# Altium footprint library ESender_PCB_Lib.PcbLib: 52 footprints (part 4 of 4)
Each footprint in its own frame and in the unit in brackets; x right, y up, seen from the top. Pads: shape width x height; smd on the part's side, far side on the other; paste and mask are expansions set on the pad; w line width, h text height; cw(c..) or ccw(c..) is an arc to the next point about the centre after c.
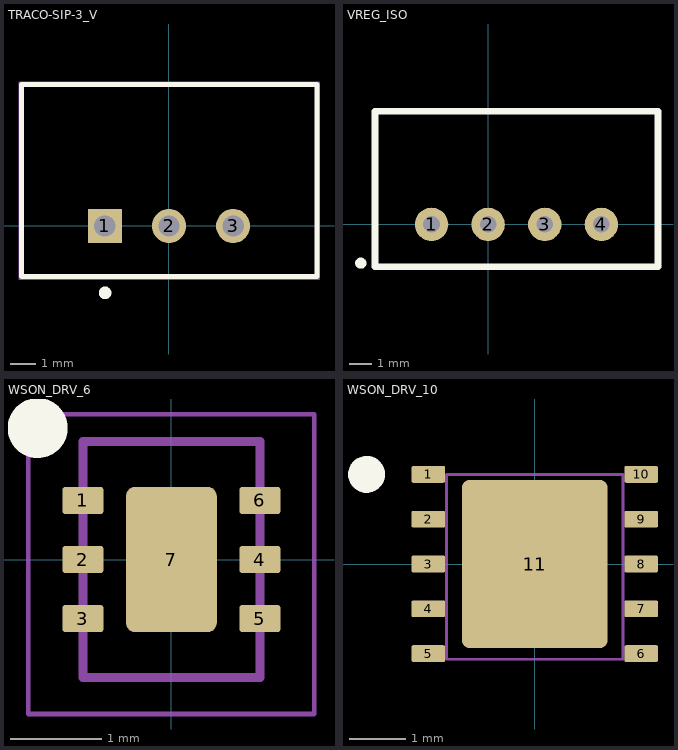
[diagram p3: the footprints below, top view; thin cyan lines are the x and y axes]

## TRACO-SIP-3_V [mm] "SIP, 3-Leads, Body 11.7x7.6mm, Pitch 2.54mm"
height 10.2
pads (3):
  rect 1.35x1.35 hole 0.85 paste+0: 1(-2.54,0)
  round 1.35 hole 0.85 paste+0: 2(0,0) 3(2.54,0)
Top Overlay:
  circle w0.25: c-2.53,-2.645 r0.125
  lines w0.2: -5.84,-2 5.86,-2 5.86,5.6 -5.84,5.6 -5.84,-2
Mechanical 13:
  lines w0.1: 5.86,-2 -5.84,-2 -5.84,5.6 5.86,5.6 5.86,-1.99
Mechanical 15:
  lines w0.05: -5.94,-2.1 -5.94,5.7 5.94,5.7 5.94,-2.1 -5.94,-2.1
  lines w0.1: -0.5,0 0.5,0 ; 0,-0.5 0,0.5
3D body: height 0, standoff -4.1, extent -2.848,-0.232 -2.213,0.276
3D body: height 0, standoff -4.1, extent 2.232,-0.232 2.867,0.276
3D body: height 0, standoff -4.1, extent -0.307,-0.232 0.328,0.276
3D body: height 10.2, standoff 0, extent -5.84,-2 5.86,5.6

## VREG_ISO [mm]
height 10
pads (4):
  round 1.5 hole 0.75: 1(-2.54,0) 2(0,0) 3(2.54,0) 4(5.08,0)
Top Overlay:
  circle w0.25: c-5.715,-1.74 r0.125
  lines w0.3: -5.08,-1.905 7.62,-1.905 7.62,5.08 -5.08,5.08 -5.08,-1.905

## WSON_DRV_6 [mm] "Pitch 0.65mm"
height 0.8
pads (7):
  rrect20% 0.45x0.3 smd: 1(-0.975,0.65) 2(-0.975,0) 3(-0.975,-0.65) 4(0.975,0) 5(0.975,-0.65) 6(0.975,0.65)
  rrect20% 1x1.6 smd: 7(0,0)
Top Overlay:
  circle w0.35: c-1.473,1.448 r0.155
Mechanical 13:
  lines w0.1: -0.975,-1.3 -0.975,1.3 0.975,1.3 0.975,-1.3 -0.975,-1.3
Mechanical 15:
  lines w0.05: -1.575,-1.702 -1.575,1.6 1.575,1.6 1.575,-1.702 -1.575,-1.702
3D body: height 1.1, standoff 0.1, extent -0.975,-1.3 0.975,1.3

## WSON_DRV_10 [mm] "Pitch 0.65mm"
height 0.8
pads (11):
  rrect20% 0.6x0.3 smd paste+0 mask+0.07: 1(-1.9,1.6) 2(-1.9,0.8) 3(-1.9,0) 4(-1.9,-0.8) 5(-1.9,-1.6) 6(1.9,-1.6) 7(1.9,-0.8) 8(1.9,0) 9(1.9,0.8) 10(1.9,1.6)
  rrect10% 2.6x3 smd paste+0 mask+0.07: 11(0,0)
Top Overlay:
  circle w0.35: c-3,1.6 r0.155
Mechanical 13:
  lines w0.1: -0.975,-1.3 0.975,-1.3 0.975,1.3 -0.975,1.3 -0.975,-1.3
Mechanical 15:
  lines w0.05: -1.575,-1.702 1.575,-1.702 1.575,1.6 -1.575,1.6 -1.575,-1.702
3D body: height 1.1, standoff 0.1, extent -0.975,-1.3 0.975,1.3